# EAGLE library part STM32G030F6 (library Gowin)
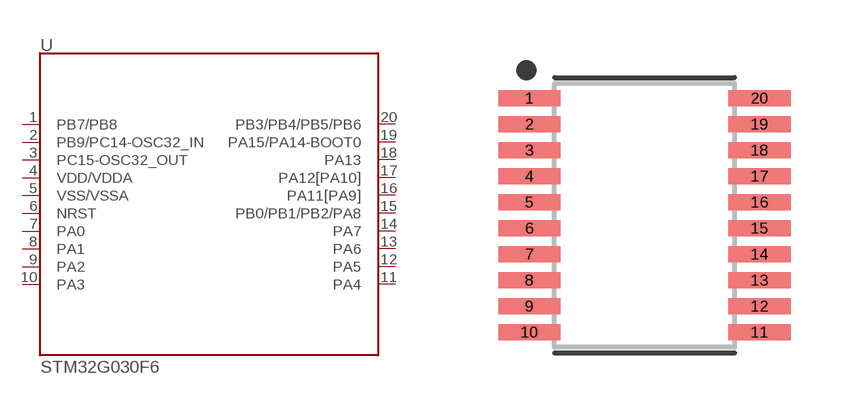
[diagram p4: symbol with the pads of SOP65P640X120-20N; footprint SOP65P640X120-20N]

Designator prefix -

## STM32G030F6TSSOP20  [SOP65P640X120-20N]
1  PB7/PB8
2  PB9/PC14-OSC32_IN
3  PC15-OSC32_OUT
4  VDD/VDDA
5  VSS/VSSA
6  NRST
7  PA0
8  PA1
9  PA2
10  PA3
11  PA4
12  PA5
13  PA6
14  PA7
15  PB0/PB1/PB2/PA8
16  PA11[PA9]
17  PA12[PA10]
18  PA13
19  PA15/PA14-BOOT0
20  PB3/PB4/PB5/PB6

## Footprint SOP65P640X120-20N (pad centres in mm)
20-SOP, 0.65 mm pitch, 6.40 mm span, 6.50 X 4.40 X 1.20 mm body 20-pin SOP package with 0.65 mm pitch, 6.40 mm span with body size 6.50 X 4.40 X 1.20 mm
smd 1.559 x 0.407: 1 -2.878,2.925; 2 -2.878,2.275; 3 -2.878,1.625; 4 -2.878,0.975; 5 -2.878,0.325; 6 -2.878,-0.325; 7 -2.878,-0.975; 8 -2.878,-1.625; 9 -2.878,-2.275; 10 -2.878,-2.925; 11 2.878,-2.925; 12 2.878,-2.275; 13 2.878,-1.625; 14 2.878,-0.975; 15 2.878,-0.325; 16 2.878,0.325; 17 2.878,0.975; 18 2.878,1.625; 19 2.878,2.275; 20 2.878,2.925